# Altium schematic symbol library AT24C512C-MAHM-T.SchLib: 1 symbol
Pins are listed as number, name and electrical type; pins without a type are passive.

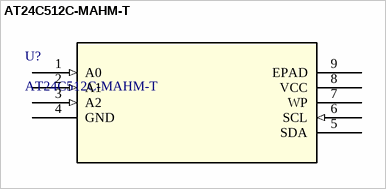
[diagram p0: symbol AT24C512C-MAHM-T]

## AT24C512C-MAHM-T
designator U?
IC EEPROM 512KBIT I2C 8UDFN; Manufacturer_Name: Microchip; Copyright: Copyright (C) 2025 Ultra Librarian. All rights reserved.; MPN: AT24C512C-MAHM-T; RefDes: RefDes; Type: Type
footprint 8MA2_ATM
pins: 1 A0 (in), 2 A1 (in), 3 A2 (in), 4 GND (power), 5 SDA, 6 SCL (in), 7 WP, 8 VCC (power), 9 EPAD